# EAGLE library part TPS651851RSLT (library TPS651851RSLT)
Check availability <https://pricing.snapeda.com/parts/TPS651851RSLT/Texas%20Instruments/view-part?ref=eda>
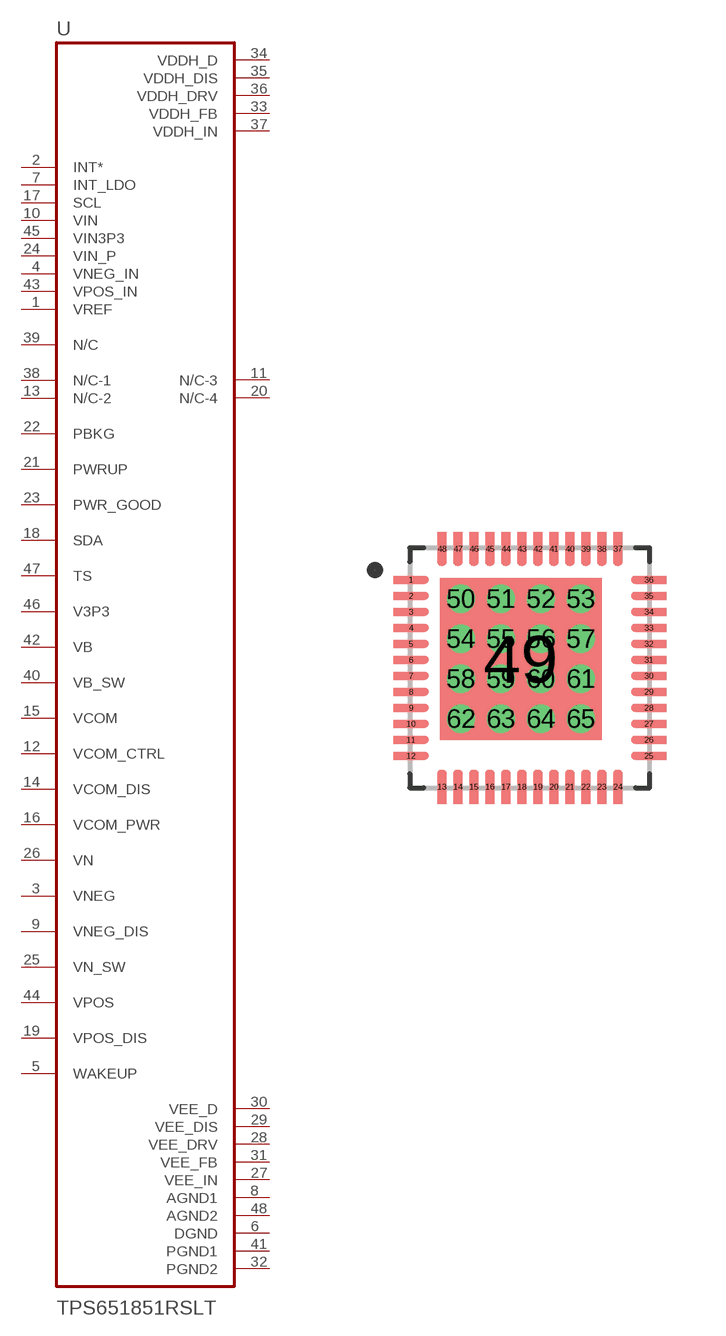
[diagram p0: symbol with the pads of IC_TPS65217CRSLR; footprint IC_TPS65217CRSLR]

Designator prefix U

## TPS651851RSLT (Availability: In Stock; Check_prices: https://www.snapeda.com/parts/TPS651851RSLT/Texas+Instruments/view-part/?ref=eda; Description: PMIC for E-Ink® Vizplex™ Enabled Electronic Paper Display w/ Active Discharge; MF: Texas Instruments; MP: TPS651851RSLT; Package: VQFN(48)-49 Texas Instruments; Price: None; SnapEDA_Link: https://www.snapeda.com/parts/TPS651851RSLT/Texas+Instruments/view-part/?ref=snap)  [IC_TPS65217CRSLR]
1  VREF  in
2  INT*  in
3  VNEG
4  VNEG_IN  in
5  WAKEUP
6  DGND  pwr
7  INT_LDO  in
8  AGND1  pwr
9  VNEG_DIS
10  VIN  in
11  N/C-3
12  VCOM_CTRL
13  N/C-2
14  VCOM_DIS
15  VCOM
16  VCOM_PWR
17  SCL  in
18  SDA
19  VPOS_DIS
20  N/C-4
21  PWRUP
22  PBKG
23  PWR_GOOD
24  VIN_P  in
25  VN_SW
26  VN
27  VEE_IN  pwr
28  VEE_DRV  pwr
29  VEE_DIS  pwr
30  VEE_D  pwr
31  VEE_FB  pwr
32  PGND2  pwr
33  VDDH_FB  pwr
34  VDDH_D  pwr
35  VDDH_DIS  pwr
36  VDDH_DRV  pwr
37  VDDH_IN  pwr
38  N/C-1
39  N/C
40  VB_SW
41  PGND1  pwr
42  VB
43  VPOS_IN  in
44  VPOS
45  VIN3P3  in
46  V3P3
47  TS
48  AGND2  pwr

## Footprint IC_TPS65217CRSLR (pad centres in mm)
smd 0.1 x 0.1: 1 -2.975,2.2; 2 -2.975,1.8; 3 -2.975,1.399; 4 -2.975,0.999; 5 -2.975,0.599; 6 -2.975,0.199; 7 -2.975,-0.201; 8 -2.975,-0.601; 9 -2.975,-1.001; 10 -2.975,-1.401; 11 -2.975,-1.801; 12 -2.975,-2.201; 13 -2.2,-2.975; 14 -1.8,-2.975; 15 -1.4,-2.975; 16 -1,-2.975; 17 -0.6,-2.975; 18 -0.2,-2.975; 19 0.2,-2.975; 20 0.6,-2.975; 21 1,-2.975; 22 1.4,-2.975; 23 1.8,-2.975; 24 2.2,-2.975; 25 2.975,-2.2; 26 2.975,-1.8; 27 2.975,-1.4; 28 2.975,-1; 29 2.975,-0.6; 30 2.975,-0.2; 31 2.975,0.2; 32 2.975,0.6; 33 2.975,1; 34 2.975,1.4; 35 2.975,1.8; 36 2.975,2.2; 37 2.2,2.975; 38 1.8,2.975; 39 1.401,2.975; 40 1,2.975; 41 0.601,2.975; 42 0.201,2.975; 43 -0.199,2.975; 44 -0.599,2.975; 45 -0.999,2.975; 46 -1.399,2.975; 47 -1.8,2.975; 48 -2.2,2.975
smd 4.05 x 4.05: 49 -0.225,0.225
drill 0.2 pad 0.4: 50 -1.725,1.725; 51 -0.725,1.725; 52 0.275,1.725; 53 1.275,1.725; 54 -1.725,0.725; 55 -0.725,0.725; 56 0.275,0.725; 57 1.275,0.725; 58 -1.725,-0.275; 59 -0.725,-0.275; 60 0.275,-0.275; 61 1.275,-0.275; 62 -1.725,-1.275; 63 -0.725,-1.275; 64 0.275,-1.275; 65 1.275,-1.275